# EAGLE library part LTC3388EDD-3TRPBF (library MF_IC_Power)
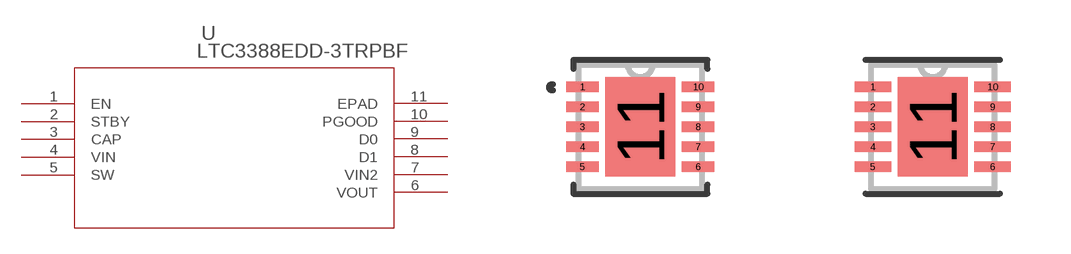
[diagram p6: symbol with the pads of DFN-10_DD_LIT; footprints DFN-10_DD_LIT, DFN-10_DD_LIT-M]

Designator prefix U

## LTC3388EDD-3TRPBF (COPYRIGHT: Copyright (C) 2025 Ultra Librarian. All rights reserved.; MANUFACTURER_PART_NUMBER: LTC3388EDD-3#TRPBF; MFR_NAME: Analog Devices Inc)  [DFN-10_DD_LIT]
1  EN  in
2  STBY  in
3  CAP  pas
4  VIN  in
5  SW  pas
6  VOUT  out
7  VIN2  in
8  D1  out
9  D0  out
10  PGOOD  out
11  EPAD  pas

## LTC3388EDD-3TRPBFDFN-10_DD_LIT-M (COPYRIGHT: Copyright (C) 2025 Ultra Librarian. All rights reserved.; MANUFACTURER_PART_NUMBER: LTC3388EDD-3#TRPBF; MFR_NAME: Analog Devices Inc)  [DFN-10_DD_LIT-M]
Pads as for DFN-10_DD_LIT

## LTC3388EDD-3TRPBFDFN-10_DD_LIT-L (COPYRIGHT: Copyright (C) 2025 Ultra Librarian. All rights reserved.; MANUFACTURER_PART_NUMBER: LTC3388EDD-3#TRPBF; MFR_NAME: Analog Devices Inc)  [DFN-10_DD_LIT-L]
Pads as for DFN-10_DD_LIT

## Footprint DFN-10_DD_LIT (pad centres in mm)
smd 0.813 x 0.254: 1 -1.448,1; 2 -1.448,0.5; 3 -1.448,0; 4 -1.448,-0.5; 5 -1.448,-1; 6 1.448,-1; 7 1.448,-0.5; 8 1.448,0; 9 1.448,0.5; 10 1.448,1
smd 1.753 x 2.489: 11 0,0

## Footprint DFN-10_DD_LIT-M (pad centres in mm)
smd 0.914 x 0.254: 1 -1.499,1; 2 -1.499,0.5; 3 -1.499,0; 4 -1.499,-0.5; 5 -1.499,-1; 6 1.499,-1; 7 1.499,-0.5; 8 1.499,0; 9 1.499,0.5; 10 1.499,1
smd 1.753 x 2.489: 11 0,0

## Footprint DFN-10_DD_LIT-L (pad centres in mm)
smd 0.711 x 0.254: 1 -1.397,1; 2 -1.397,0.5; 3 -1.397,0; 4 -1.397,-0.5; 5 -1.397,-1; 6 1.397,-1; 7 1.397,-0.5; 8 1.397,0; 9 1.397,0.5; 10 1.397,1
smd 1.753 x 2.489: 11 0,0